# Altium schematic symbol library SPBW03F-12.SchLib: 1 symbol
Pins are listed as number, name and electrical type; pins without a type are passive.

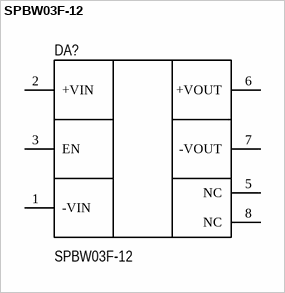
[diagram p0: symbol SPBW03F-12]

## SPBW03F-12
designator DA?
DC/DC преобразователь, 3Вт, вход 9-36В,выход 12В/0.25А
footprint SIP8
pins: 1 -VIN, 2 +VIN, 3 EN, 5 NC, 6 +VOUT, 7 -VOUT, 8 NC